# EAGLE library part MSP430FR2355TPT (library MSP430FR2355TPT)
16-bit Microcontrollers - MCU 24MHz 105C ULP Microcontroller With 32 KB FRAM, 4 KB SRAM, 44 IO, 12-bit ADC, 12-bit DACs, OpAmp/PGA 48-LQFP -40 to 105 Source: Datasheet <https://www.arrow.com/en/products/msp430fr2355tpt/texas-instruments>
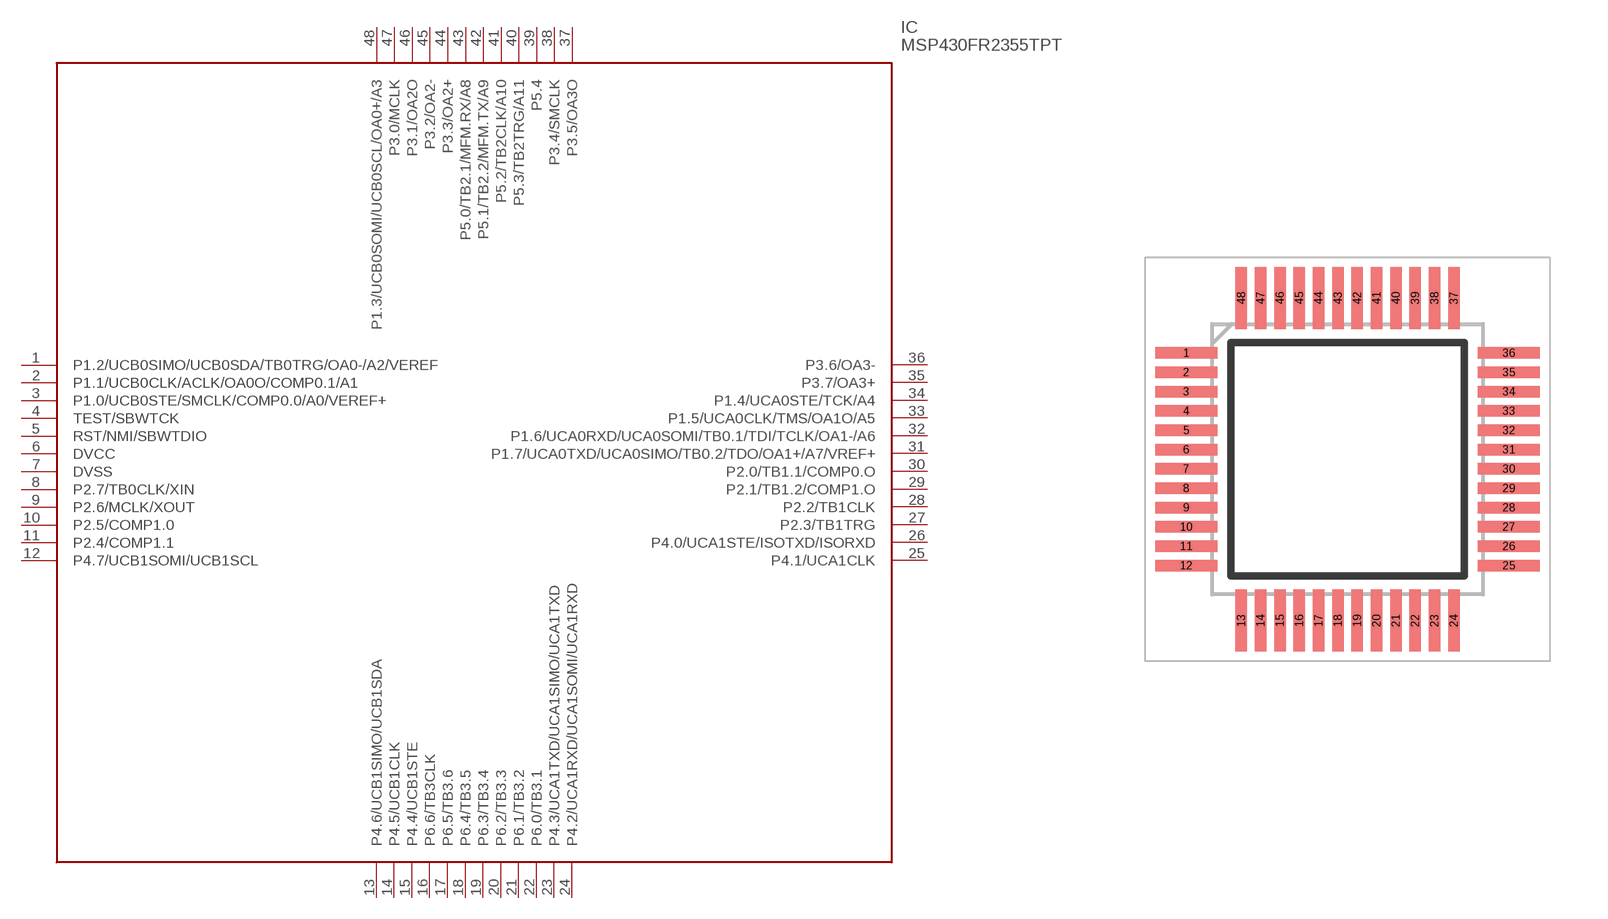
[diagram p0: symbol with the pads of QFP50P900X900X145-48N; footprint QFP50P900X900X145-48N]

Designator prefix IC

## MSP430FR2355TPT (Description: 16-bit Microcontrollers - MCU 24MHz 105C ULP Microcontroller With 32 KB FRAM, 4 KB SRAM, 44 IO, 12-bit ADC, 12-bit DACs, OpAmp/PGA 48-LQFP -40 to 105; Height: 1.45mm; Manufacturer_Name: Texas Instruments; Manufacturer_Part_Number: MSP430FR2355TPT)  [QFP50P900X900X145-48N]
1  P1.2/UCB0SIMO/UCB0SDA/TB0TRG/OA0-/A2/VEREF
2  P1.1/UCB0CLK/ACLK/OA0O/COMP0.1/A1
3  P1.0/UCB0STE/SMCLK/COMP0.0/A0/VEREF+
4  TEST/SBWTCK
5  RST/NMI/SBWTDIO
6  DVCC
7  DVSS
8  P2.7/TB0CLK/XIN
9  P2.6/MCLK/XOUT
10  P2.5/COMP1.0
11  P2.4/COMP1.1
12  P4.7/UCB1SOMI/UCB1SCL
13  P4.6/UCB1SIMO/UCB1SDA
14  P4.5/UCB1CLK
15  P4.4/UCB1STE
16  P6.6/TB3CLK
17  P6.5/TB3.6
18  P6.4/TB3.5
19  P6.3/TB3.4
20  P6.2/TB3.3
21  P6.1/TB3.2
22  P6.0/TB3.1
23  P4.3/UCA1TXD/UCA1SIMO/UCA1TXD
24  P4.2/UCA1RXD/UCA1SOMI/UCA1RXD
25  P4.1/UCA1CLK
26  P4.0/UCA1STE/ISOTXD/ISORXD
27  P2.3/TB1TRG
28  P2.2/TB1CLK
29  P2.1/TB1.2/COMP1.O
30  P2.0/TB1.1/COMP0.O
31  P1.7/UCA0TXD/UCA0SIMO/TB0.2/TDO/OA1+/A7/VREF+
32  P1.6/UCA0RXD/UCA0SOMI/TB0.1/TDI/TCLK/OA1-/A6
33  P1.5/UCA0CLK/TMS/OA1O/A5
34  P1.4/UCA0STE/TCK/A4
35  P3.7/OA3+
36  P3.6/OA3-
37  P3.5/OA3O
38  P3.4/SMCLK
39  P5.4
40  P5.3/TB2TRG/A11
41  P5.2/TB2CLK/A10
42  P5.1/TB2.2/MFM.TX/A9
43  P5.0/TB2.1/MFM.RX/A8
44  P3.3/OA2+
45  P3.2/OA2-
46  P3.1/OA2O
47  P3.0/MCLK
48  P1.3/UCB0SOMI/UCB0SCL/OA0+/A3

## Footprint QFP50P900X900X145-48N (pad centres in mm)
S-PQFP-G48
smd 1.6 x 0.3: 1 -4.175,2.75; 2 -4.175,2.25; 3 -4.175,1.75; 4 -4.175,1.25; 5 -4.175,0.75; 6 -4.175,0.25; 7 -4.175,-0.25; 8 -4.175,-0.75; 9 -4.175,-1.25; 10 -4.175,-1.75; 11 -4.175,-2.25; 12 -4.175,-2.75; 25 4.175,-2.75; 26 4.175,-2.25; 27 4.175,-1.75; 28 4.175,-1.25; 29 4.175,-0.75; 30 4.175,-0.25; 31 4.175,0.25; 32 4.175,0.75; 33 4.175,1.25; 34 4.175,1.75; 35 4.175,2.25; 36 4.175,2.75
smd 0.3 x 1.6: 13 -2.75,-4.175; 14 -2.25,-4.175; 15 -1.75,-4.175; 16 -1.25,-4.175; 17 -0.75,-4.175; 18 -0.25,-4.175; 19 0.25,-4.175; 20 0.75,-4.175; 21 1.25,-4.175; 22 1.75,-4.175; 23 2.25,-4.175; 24 2.75,-4.175; 37 2.75,4.175; 38 2.25,4.175; 39 1.75,4.175; 40 1.25,4.175; 41 0.75,4.175; 42 0.25,4.175; 43 -0.25,4.175; 44 -0.75,4.175; 45 -1.25,4.175; 46 -1.75,4.175; 47 -2.25,4.175; 48 -2.75,4.175